# EAGLE library part CONNECTOR-SOCKET-40P (library Connector)
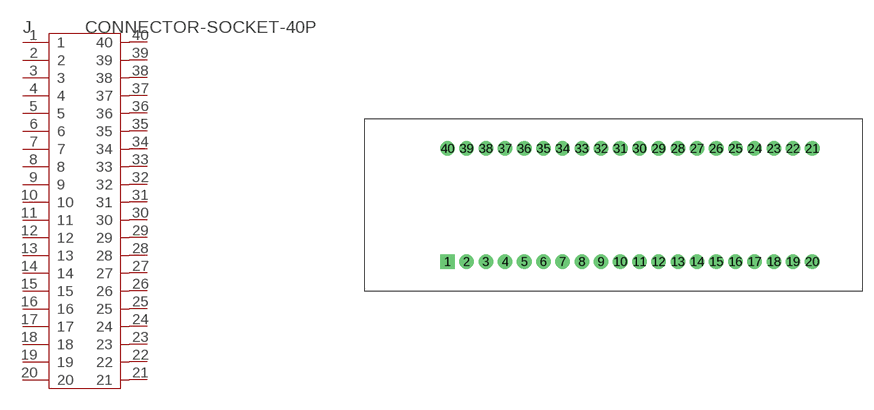
[diagram p37: symbol with the pads of 40P-2.54-22.8X65.5; footprint 40P-2.54-22.8X65.5]

Designator prefix J

## CONNECTOR-SOCKET-40P  [40P-2.54-22.8X65.5]
1  1
2  2
3  3
4  4
5  5
6  6
7  7
8  8
9  9
10  10
11  11
12  12
13  13
14  14
15  15
16  16
17  17
18  18
19  19
20  20
21  21
22  22
23  23
24  24
25  25
26  26
27  27
28  28
29  29
30  30
31  31
32  32
33  33
34  34
35  35
36  36
37  37
38  38
39  39
40  40

## Footprint 40P-2.54-22.8X65.5 (pad centres in mm)
drill 1.143 pad 1.93 square: 1 -21.971,-7.493
drill 1.143 pad 1.93: 2 -19.431,-7.493; 3 -16.891,-7.493; 4 -14.351,-7.493; 5 -11.811,-7.493; 6 -9.271,-7.493; 7 -6.731,-7.493; 8 -4.191,-7.493; 9 -1.651,-7.493; 10 0.889,-7.493; 11 3.429,-7.493; 12 5.969,-7.493; 13 8.509,-7.493; 14 11.049,-7.493; 15 13.589,-7.493; 16 16.129,-7.493; 17 18.669,-7.493; 18 21.209,-7.493; 19 23.749,-7.493; 20 26.289,-7.493; 21 26.289,7.493; 22 23.749,7.493; 23 21.209,7.493; 24 18.669,7.493; 25 16.129,7.493; 26 13.589,7.493; 27 11.049,7.493; 28 8.509,7.493; 29 5.969,7.493; 30 3.429,7.493; 31 0.889,7.493; 32 -1.651,7.493; 33 -4.191,7.493; 34 -6.731,7.493; 35 -9.271,7.493; 36 -11.811,7.493; 37 -14.351,7.493; 38 -16.891,7.493; 39 -19.431,7.493; 40 -21.971,7.493